# Altium schematic symbol library Hydroscope.SCHLIB: 61 symbols (part 2 of 2)
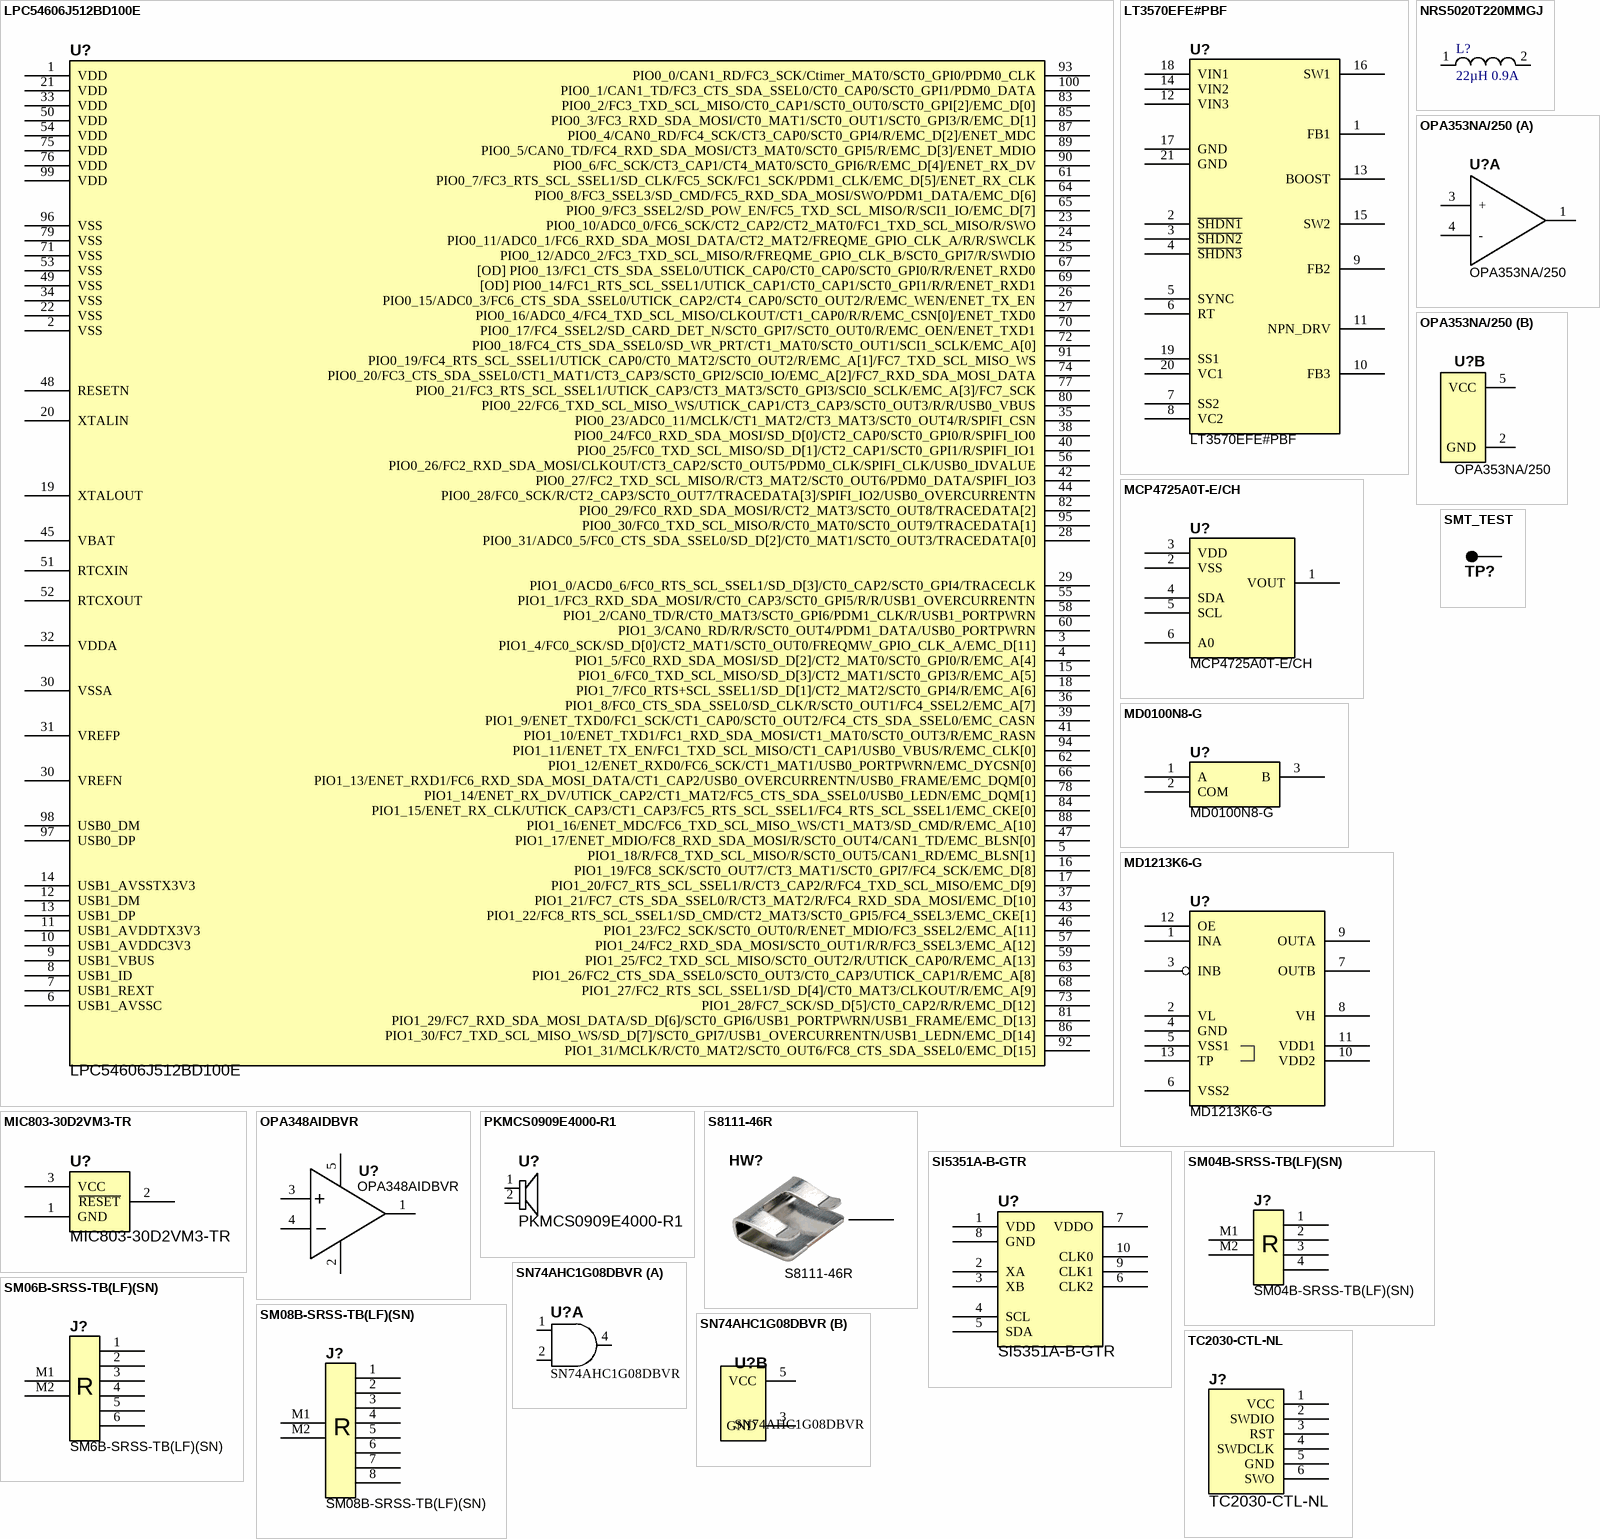
[diagram p3: symbols LPC54606J512BD100E to TC2030‐CTL‐NL]

## LT3570EFE#PBF
designator U?
IC REG BUCK/BST/LINEAR 20TSSOP; Manufacturer: Linear Technology; Number of Outputs: 2; Max Input Voltage: 36V; Min Input Voltage: 2.5V; Switching Frequency: 2.1MHz; Voltage - Output 1: 800mV; Output Current: 1.5A; Frequency: 3MHz; Value: LT3570EFE#PBF; Supplier 1: Arrow; Supplier Part Number 1: LT3570EFE#PBF; Manufacturer Part Number: LT3570EFE#PBF; Stock 1: 2204; Pricing 1: 1=4.36, 99=3.7 (USD); Case/Package: TSSOP; Number of Pins: 20; Min Operating Temperature: -40°C; Max Operating Temperature: 125°C; Package Quantity: 74; Packaging: Rail/Tube; Voltage - Output 2: 800mV; Output Voltage: 800mV; Max Output Current: 1.5A; Max Supply Voltage: 36V; Min Supply Voltage: 2.5V; Min Output Voltage: 800mV; Termination: SMD/SMT; Radiation Hardening: No; Lead Free: Lead Free; REACH SVHC: No SVHC; ComponentLink1URL: https://datasheet.ciiva.com/2076/26936-2076065.pdf; ComponentLink1Description: https://datasheet.ciiva.com/2076/26936-2076065.pdf; ComponentLink2URL: https://datasheet.ciiva.com/6192/1692490-6192694.pdf; ComponentLink2Description: https://datasheet.ciiva.com/6192/1692490-6192694.pdf; ComponentLink3URL: https://datasheet.ciiva.com/7363/1692490-7363821.pdf; ComponentLink3Description: https://datasheet.ciiva.com/7363/1692490-7363821.pdf; ComponentLink4URL: https://datasheet.ciiva.com/7905/1692490-7905870.pdf; ComponentLink4Description: https://datasheet.ciiva.com/7905/1692490-7905870.pdf
footprint TSOP65P640X120_HS-21N (TSOP, 20-Leads, Body 6.50x4.40mm, Pitch 0.65mm, Thermal Pad 3.86x2.74mm, IPC Medium Density)
pins: 1 FB1, 2 ~{SHDN1}, 3 ~{SHDN2}, 4 ~{SHDN3}, 5 SYNC, 6 RT, 7 SS2, 8 VC2, 9 FB2, 10 FB3, 11 NPN_DRV, 12 VIN3, 13 BOOST, 14 VIN2, 15 SW2, 16 SW1, 17 GND, 18 VIN1, 19 SS1, 20 VC1, 21 GND

## MCP4725A0T-E/CH
designator U?
IC DAC 12BIT W/I2C SOT23A-6; Manufacturer: Microchip; Resolution: 12b; Integral Nonlinearity (INL): 14.5LSB; Output Type: Voltage; Number of DAC Channels: 1; Interface: I2C,Serial,2-Wire; Max Supply Voltage: 5.5V; Min Supply Voltage: 2.7V; Settling Time: 6us; Number of Bits: 12; Polarity: Unipolar; Supply Type: Single; Nominal Supply Current: 210uA; Input Offset Voltage (Vos): 1.1mV; Value: MCP4725A0T-E/CH; Supplier 1: Digi-Key; Supplier Part Number 1: MCP4725A0T-E/CHDKR-ND; Manufacturer Part Number: MCP4725A0T-E/CH; Stock 1: 42678; Pricing 1: 1=1.02, 25=0.848, 100=0.7738 (USD); Mount: Surface Mount; Case/Package: SOT-23-6; Number of Pins: 6; Contact Plating: Tin,Matte; Min Operating Temperature: -40°C; Max Operating Temperature: 125°C; Number of Channels: 1; Packaging: Tape and Reel; Package Quantity: 3000; Number of Converters: 1; Number of Outputs: 1; Number of D/A Converters: 1; Termination: SMD/SMT; Length: 3.1mm; Height: 1.3mm; Width: 1.8mm; Radiation Hardening: No; REACH SVHC: No SVHC; Lead Free: Lead Free; ComponentLink1URL: https://datasheet.ciiva.com/7660/1470577-7660741.pdf; ComponentLink1Description: https://datasheet.ciiva.com/7660/1470577-7660741.pdf; ComponentLink2URL: https://datasheet.ciiva.com/16355/filehandler-aspxddocname-en532676-16355109.pdf; ComponentLink2Description: https://datasheet.ciiva.com/16355/filehandler-aspxddocname-en532676-16355109.pdf; ComponentLink3URL: https://datasheet.ciiva.com/8169/22039c-8169286.pdf; ComponentLink3Description: https://datasheet.ciiva.com/8169/22039c-8169286.pdf; ComponentLink4URL: https://datasheet.ciiva.com/12285/22039c-78124-12285942.pdf; ComponentLink4Description: https://datasheet.ciiva.com/12285/22039c-78124-12285942.pdf; ComponentLink5URL: https://datasheet.ciiva.com/16625/22039c-16625638.pdf; ComponentLink5Description: https://datasheet.ciiva.com/16625/22039c-16625638.pdf; ComponentLink6URL: https://datasheet.ciiva.com/26947/getdatasheetpartid-780909-26947786.pdf; ComponentLink6Description: https://datasheet.ciiva.com/26947/getdatasheetpartid-780909-26947786.pdf; ComponentLink7URL: https://datasheet.ciiva.com/1359/22039d-1359787.pdf; ComponentLink7Description: https://datasheet.ciiva.com/1359/22039d-1359787.pdf; ComponentLink8URL: https://datasheet.ciiva.com/1359/22039d-1359788.pdf; ComponentLink8Description: https://datasheet.ciiva.com/1359/22039d-1359788.pdf; ComponentLink9URL: https://datasheet.ciiva.com/1359/22039d-1359789.pdf; ComponentLink9Description: https://datasheet.ciiva.com/1359/22039d-1359789.pdf; ComponentLink10URL: https://datasheet.ciiva.com/14180/mcp4725-eng-tds-14180126.pdf; ComponentLink10Description: https://datasheet.ciiva.com/14180/mcp4725-eng-tds-14180126.pdf
footprint SOT95P245X145-6L (SOT23, 6-Leads, Body 3.1x2.6mm (max), Pitch 0.95mm, IPC High Density)
pins: 1 VOUT, 2 VSS, 3 VDD, 4 SDA, 5 SCL, 6 A0

## MD0100N8-G
designator U?
High Voltage Protection T/R Switch 4-Pin(3+Tab) SOT-89; Manufacturer: Microchip Supertex; On-State Resistance: 15R; Value: MD0100N8-G; Supplier 1: Digi-Key; Supplier Part Number 1: MD0100N8-GCT-ND; Manufacturer Part Number: MD0100N8-G; Stock 1: 609; Pricing 1: 1=1.24, 25=1.0284, 100=0.9328 (USD); Mount: Surface Mount; Case/Package: SOT-89; Number of Pins: 4; Min Operating Temperature: -40°C; Max Operating Temperature: 125°C; Packaging: Tape and Reel; Package Quantity: 2000; Length: 4.6mm; ComponentLink1URL: https://datasheet.ciiva.com/15746/md0100-15746487.pdf; ComponentLink1Description: https://datasheet.ciiva.com/15746/md0100-15746487.pdf; ComponentLink2URL: https://datasheet.ciiva.com/30248/656md0100-30248377.pdf; ComponentLink2Description: https://datasheet.ciiva.com/30248/656md0100-30248377.pdf
footprint SOT89-150P410X160-3N (Footprint not found)
pins: 1 A, 2 COM, 3 B

## MD1213K6-G
designator U?
Gate Drivers HI SPD DUAL MOSFET DRIVER; Manufacturer: Microchip Supertex; Max Supply Voltage: 13V; Max Output Current: 2A; Min Supply Voltage: 4.5V; Rise Time: 6ns; Number of Outputs: 2; Operating Supply Voltage: 12V; Frequency: 100kHz; Nominal Supply Current: 550uA; Propagation Delay: 7ns; Value: MD1213K6-G; Supplier 1: Digi-Key; Supplier Part Number 1: MD1213K6-GCT-ND; Manufacturer Part Number: MD1213K6-G; Stock 1: 2628; Pricing 1: 1=1.61, 25=1.3464, 100=1.219 (USD); Mount: Surface Mount; Case/Package: QFN; Number of Pins: 12; Min Operating Temperature: -20°C; Max Operating Temperature: 85°C; Packaging: Tape and Reel; Package Quantity: 3000; Output Current: 2A; Number of Drivers: 2; Fall Time: 6ns; ComponentLink1URL: https://datasheet.ciiva.com/4898/md1213-30882-4898732.pdf; ComponentLink1Description: https://datasheet.ciiva.com/4898/md1213-30882-4898732.pdf; ComponentLink2URL: https://datasheet.ciiva.com/30175/md1213-30175933.pdf; ComponentLink2Description: https://datasheet.ciiva.com/30175/md1213-30175933.pdf
footprint QFN80P400X400X100_HS-13N (QFN, 12-Leads, Body 4.00x4.00mm, Pitch 0.80mm, Thermal Pad 1.50x1.50mm, IPC Medium Density)
pins: 1 INA, 2 VL, 3 INB, 4 GND, 5 VSS1, 6 VSS2, 7 OUTB, 8 VH, 9 OUTA, 10 VDD2, 11 VDD1, 12 OE, 13 TP

## MIC803-30D2VM3-TR
designator U?
3-Pin Microprocessor Supervisor Circuit w/ Open-Drain Reset Output, 3 SOT-23 - T/R; Manufacturer: Microchip; Number of Voltages Monitored: 1; Reset: Active Low; Reset Timeout: 20ms; Threshold Voltage: 3V; Value: MIC803-30D2VM3-TR; Supplier 1: Digi-Key; Supplier Part Number 1: 576-3808-1-ND; Manufacturer Part Number: MIC803-30D2VM3-TR; Stock 1: 3642; Pricing 1: 1=0.3, 25=0.252, 100=0.231 (USD); Mount: Surface Mount; Case/Package: TO-236-3; Min Operating Temperature: -40°C; Max Operating Temperature: 125°C; Packaging: Cit Tape (CT); Type: Simple Reset/Power-On Reset; Lead Free: Lead Free
footprint SOT-23
pins: 1 GND, 2 ~{RESET}, 3 VCC

## NRS5020T220MMGJ
designator L?, comment 22µH 0.9A
Inductor 22µH 0.9A; Part Number: NRS5020T220MMGJ; Manufacturer: Taiyo Yuden; CategorySort: 300; Inductance (uH): 22; Tolerance: ±20%; DCR Max (Ohms): 312 mOhm Max; SRF typ (MHz): 17MHz; Isat (A): 0.9; IRMS: 1; Shielding: Sheilded; Category: Inductors; Value: 22µH 0.9A; ComponentLink1Description: External Datasheet; ComponentLink1URL: http://ds.yuden.co.jp/TYCOMPAS/ut/detail.do?productNo=NRS5020T220MMGJV&fileName=NRS5020T220MMGJV_SS&mode=specSheetDownload; Sort Value: 22_0.9; Sort Value Package: 22_0.9_NRS5020; Manufacturer Part Number: NRS5020T220MMGJ; Supplier 1: Digikey; Supplier Part Number 1: 587-2411-1-ND; Supplier Unit Price 1: 0.34; Package: NRS5020; Height (mm): 2mm; Rating: -
footprint L_NRS5020
pins: 1, 2

## OPA348AIDBVR
designator U?
IC OPAMP GP 1MHZ RRO SOT23-5; Manufacturer: Texas Instruments; Min Supply Voltage: 2.5V; Max Supply Voltage: 5.5V; Voltage Gain: 108dB; Common Mode Rejection Ratio: 70dB; Number of Channels: 1; Slew Rate: 0.5V/µs; Nominal Supply Current: 65uA; Input Offset Voltage (Vos): 5mV; Input Bias Current: 10pA; Power Supply Rejection Ratio (PSRR): 84.44dB; Operating Supply Current: 45uA; Output Current per Channel: 10mA; Value: OPA348AIDBVR; Supplier 1: Digi-Key; Supplier Part Number 1: 296-26277-1-ND; Manufacturer Part Number: OPA348AIDBVR; Stock 1: 13530; Pricing 1: 1=0.68, 10=0.598, 100=0.4586, 500=0.36256, 1000=0.29005 (USD); Case/Package: SOT-23; Number of Pins: 5; Min Operating Temperature: -40°C; Max Operating Temperature: 125°C; Gain Bandwidth Product: 1MHz; Package Quantity: 3000; Packaging: Tape and Reel; Unity Gain Bandwidth Product: 1MHz; Bandwidth: 1MHz; Number of Circuits: 1; Number of Elements: 1; Number of Amplifiers: 1; Length: 2.9mm; Height: 1.15mm; Width: 1.6mm; Radiation Hardening: No; REACH SVHC: No SVHC; Lead Free: Lead Free; ComponentLink1URL: https://datasheet.ciiva.com/2974/opa4348-2974011.pdf; ComponentLink1Description: https://datasheet.ciiva.com/2974/opa4348-2974011.pdf; ComponentLink2URL: https://datasheet.ciiva.com/2974/opa4348-2974012.pdf; ComponentLink2Description: https://datasheet.ciiva.com/2974/opa4348-2974012.pdf; ComponentLink3URL: https://datasheet.ciiva.com/1811/opa2348-1811421.pdf; ComponentLink3Description: https://datasheet.ciiva.com/1811/opa2348-1811421.pdf; ComponentLink4URL: https://datasheet.ciiva.com/26226/opa4348-26226685.pdf; ComponentLink4Description: https://datasheet.ciiva.com/26226/opa4348-26226685.pdf; ComponentLink5URL: https://datasheet.ciiva.com/1811/opa2348-1811422.pdf; ComponentLink5Description: https://datasheet.ciiva.com/1811/opa2348-1811422.pdf; ComponentLink6URL: https://datasheet.ciiva.com/1811/opa2348-1811423.pdf; ComponentLink6Description: https://datasheet.ciiva.com/1811/opa2348-1811423.pdf; Contact Plating: Gold; Nominal Gain Bandwidth Product: 1MHz; Max I/O Voltage: 5mV
footprint SOT23-5 (SOT23, 5-Leads, Body 3.1x2.6mm (max), Pitch 0.95mm, IPC High Density)
pins: 1 OUT, 2 GND, 3 +, 4 -, 5 VCC

## OPA353NA/250
designator U?
IC OPAMP GP 44MHZ RRO SOT23-5; Manufacturer: Texas Instruments; Amplifier Type: General Purpose; Number of Circuits: 1; Output Type: Rail-to-Rail; Slew Rate: 22 V/µs; Current - Input Bias: 0.5pA; Voltage - Input Offset: 3mV; Current - Supply: 5.2mA; Current - Output / Channel: 40mA; Voltage - Supply, Single/Dual (±): 2.5 V ~ 5.5 V, ±1.25 V ~ 2.75 V; Value: OPA353NA/250; Supplier 1: Digi-Key; Supplier Part Number 1: OPA353NACT-ND; Manufacturer Part Number: OPA353NA/250; RoHS: RoHS Compliant; Category: Integrated Circuits (ICs); Stock 1: 21970; Pricing 1: 1=2.98, 10=2.671, 100=2.1909 (USD); Packaging: Cut Tape (CT); Gain Bandwidth Product: 44MHz; -3db Bandwidth: -; Operating Temperature: -40°C ~ 85°C; Mounting Type: Surface Mount; Package / Case: SC-74A, SOT-753; Supplier Device Package: SOT-23-5; ComponentLink1URL: http://www.ti.com/lit/ds/symlink/opa353.pdf; ComponentLink1Description: http://www.ti.com/lit/ds/symlink/opa353.pdf
footprint SOT23-5 (SOT23, 5-Leads, Body 3.1x2.6mm (max), Pitch 0.95mm, IPC High Density)
part A pins: 1 OUT, 3 +, 4 -
part B pins: 2 GND, 5 VCC

## PKMCS0909E4000-R1
designator U?
Audio Indicators & Alerts Piezo Buzzer 9x9mm 4KHz 1.9mm Thickness; Manufacturer: Murata; Voltage Rating: 1.5V; Voltage Rating (DC): 12.5V; Min Supply Voltage (DC): -12.5V; Value: PKMCS0909E4000-R1; Supplier 1: Digi-Key; Supplier Part Number 1: 490-9647-1-ND; Manufacturer Part Number: PKMCS0909E4000-R1; Stock 1: 28739; Pricing 1: 1=1.96, 10=1.708, 25=1.3284, 50=1.2018, 100=1.0753, 250=1.04364, 500=1.012, 1000=0.91713 (USD); Mount: Surface Mount; Min Operating Temperature: -40°C; Max Operating Temperature: 85°C; Packaging: Tape and Reel; Package Quantity: 2000; Frequency: 4kHz; Termination: Solder; Max Supply Voltage (DC): 12.5V; Self Resonant Frequency: 4kHz; Length: 9mm; Height: 1.9mm; Width: 9mm; Depth: 9mm; Radiation Hardening: No; REACH SVHC: No SVHC; Lead Free: Lead Free; ComponentLink1URL: https://datasheet.ciiva.com/24244/pkmcs0909e4000-r1-304946-24244386.pdf; ComponentLink1Description: https://datasheet.ciiva.com/24244/pkmcs0909e4000-r1-304946-24244386.pdf
footprint PKMCS0909E4000-R1
pins: 1 +, 2 -

## S8111-46R
designator HW?
CBL CLIP 1-1.5MM DIA CBL SMD; Manufacturer: Harwin; Wire/Cable Colour: Grey; Material Thickness: 0.008inch; Value: S8111-46R; Supplier 1: Digi-Key; Supplier Part Number 1: 952-1577-1-ND; Manufacturer Part Number: S8111-46R; Stock 1: 36199; Pricing 1: 1=0.27, 10=0.254, 25=0.218, 50=0.1852, 100=0.1779, 250=0.15972, 500=0.15246 (USD); Mount: Solder; Colour: Natural,Silver; Material: Bronze,Copper,Tin; Package Quantity: 1500; Packaging: Tape and Reel; Length: 5mm; Height: 0.081inch; Width: 5mm; Depth: 5mm; REACH SVHC: No SVHC; ComponentLink1URL: https://datasheet.ciiva.com/73/s8111r-73504.pdf; ComponentLink1Description: https://datasheet.ciiva.com/73/s8111r-73504.pdf; ComponentLink2URL: https://datasheet.ciiva.com/5230/s8111r-65574-5230384.pdf; ComponentLink2Description: https://datasheet.ciiva.com/5230/s8111r-65574-5230384.pdf; ComponentLink3URL: https://datasheet.ciiva.com/73/s8111r-73505.pdf; ComponentLink3Description: https://datasheet.ciiva.com/73/s8111r-73505.pdf; ComponentLink4URL: https://datasheet.ciiva.com/1515/1694708-1515016.pdf; ComponentLink4Description: https://datasheet.ciiva.com/1515/1694708-1515016.pdf; ComponentLink5URL: https://datasheet.ciiva.com/30474/0900766b81270b7b-30474510.pdf; ComponentLink5Description: https://datasheet.ciiva.com/30474/0900766b81270b7b-30474510.pdf; Orientation: Straight; Radiation Hardening: No
footprint S8111-46R
pins: 1

## SI5351A-B-GTR
designator U?
Clock Generators & Support Products Any-Rate, Dual PLL 1 60MHz Clock 8outputs; Manufacturer: Silicon Labs; Number of Outputs: 3; Number of Circuits: 1; Max Frequency: 160MHz; Input: Crystal; PLL: Yes; Operating Supply Current: 22mA; Operating Supply Voltage: 3.3V; Max Duty Cycle: 55%; Value: SI5351A-B-GTR; Supplier 1: Digi-Key; Supplier Part Number 1: 336-3908-1-ND; Manufacturer Part Number: SI5351A-B-GTR; Stock 1: 11416; Pricing 1: 1=0.92, 25=0.8816, 100=0.8475 (USD); Mount: Surface Mount; Case/Package: MSOP; Number of Pins: 10; Min Operating Temperature: -40°C; Max Operating Temperature: 85°C; Packaging: Tape and Reel; Package Quantity: 2500; ComponentLink1URL: http://www.mouser.com/ds/2/368/Si5351-B-346869.pdf; ComponentLink1Description: http://www.mouser.com/ds/2/368/Si5351-B-346869.pdf; ComponentLink2URL: https://www.silabs.com/Support%20Documents/TechnicalDocs/Si5350-51-short.pdf; ComponentLink2Description: https://www.silabs.com/Support%20Documents/TechnicalDocs/Si5350-51-short.pdf; ComponentLink3URL: https://www.silabs.com/Support%20Documents/TechnicalDocs/Si5351-B.pdf; ComponentLink3Description: https://www.silabs.com/Support%20Documents/TechnicalDocs/Si5351-B.pdf
footprint 10 MSOP ((Reference LTC DWG # 05-08-1661 Rev E))
pins: 1 VDD, 2 XA, 3 XB, 4 SCL, 5 SDA, 6 CLK2, 7 VDDO, 8 GND, 9 CLK1, 10 CLK0

## SM04B-SRSS-TB(LF)(SN)
designator J?
Conn Shrouded Header HDR 4 POS 1mm Solder RA SMD T/R; Manufacturer: JST; Number of Positions: 4; Connector Type: Male Pin; Contact Resistance: 40mR; Max Current Rating: 1A; Max Voltage Rating (AC): 50V; Pitch: 0.039inch; Value: SM04B-SRSS-TB(LF)(SN); Supplier 1: Digi-Key; Manufacturer Part Number: SM04B-SRSS-TB(LF)(SN); Stock 1: 43886; Pricing 1: 1=0.61, 10=0.569, 100=0.436, 500=0.37914, 1000=0.31279 (USD); Mount: Surface Mount; Contact Material: Copper Alloy; Contact Plating: Copper,Tin; Colour: Natural; Housing Colour: Beige; Housing Material: Polyamide; Min Operating Temperature: -25°C; Max Operating Temperature: 85°C; Number of Rows: 1; Termination: Solder; Packaging: Tape and Reel; Orientation: Right Angle; Number of Contacts: 4; Max Voltage Rating (DC): 50V; Length: 6mm; Depth: 4.95mm; Lead Free: Lead Free; ComponentLink1URL: https://datasheet.ciiva.com/26894/getdatasheetpartid-499363-26894945.pdf; ComponentLink1Description: https://datasheet.ciiva.com/26894/getdatasheetpartid-499363-26894945.pdf; ComponentLink2URL: https://datasheet.ciiva.com/26894/getdatasheetpartid-640736-26894676.pdf; ComponentLink2Description: https://datasheet.ciiva.com/26894/getdatasheetpartid-640736-26894676.pdf; ComponentLink3URL: https://datasheet.ciiva.com/16487/jstsm04b-srss-tb-lf-sn-16487222.pdf; ComponentLink3Description: https://datasheet.ciiva.com/16487/jstsm04b-srss-tb-lf-sn-16487222.pdf; Supplier Part Number 1: 455-1804-1-ND
footprint SM04B-SRSS-TB(LF)(SN) (CONN HEADR SH 4POS SIDE 1MM TIN)
pins: 1, 2, 3, 4, M1, M2
text: R

## SM06B-SRSS-TB(LF)(SN)
designator J?, comment SM6B-SRSS-TB(LF)(SN)
6 Positions Header, Shrouded Connector 0.039" (1.00mm) Surface Mount, Right Angle Tin; Manufacturer: JST; Manufacturer Part Number: SM06B-SRSS-TB(LF)(SN); Number of Positions: 6; Connector Type: Male Pin; Current Rating: 1A; Voltage Rating: 50V; Contact Resistance: 40mR; Insulation Resistance: 100MR; Gender: Male; Pitch: 1mm; Value: SM6B-SRSS-TB(LF)(SN); Supplier 1: Digi-Key; Supplier Part Number 1: 455-1806-1-ND; Stock 1: 40560; Pricing 1: 1=0.83, 10=0.782, 100=0.5996, 500=0.5214, 1000=0.4301 (USD); Mount: Surface Mount; Contact Material: Copper,Copper Alloy; Contact Plating: Copper,Tin,Lead; Colour: Natural; Housing Colour: Beige; Housing Material: Polyamide; Material: Polyamide; Min Operating Temperature: -25°C; Max Operating Temperature: 85°C; Number of Rows: 1; Packaging: Tape and Reel; Termination: Solder; Number of Contacts: 6; Orientation: Right Angle; Voltage Rating (AC): 50V; Max Current Rating: 1A; Max Voltage Rating (AC): 50V; Max Voltage Rating (DC): 50V; Length: 8mm; Lead Pitch: 1mm; Depth: 4.95mm; Lead Free: Lead Free; REACH SVHC: No SVHC; Flammability Rating: UL94 V-0; ComponentLink1URL: https://datasheet.ciiva.com/11752/0900766b8082f544-11752176.pdf; ComponentLink1Description: https://datasheet.ciiva.com/11752/0900766b8082f544-11752176.pdf; ComponentLink2URL: https://datasheet.ciiva.com/16217/sm06b-srss-tblfsn-16217552.pdf; ComponentLink2Description: https://datasheet.ciiva.com/16217/sm06b-srss-tblfsn-16217552.pdf; ComponentLink3URL: https://datasheet.ciiva.com/26894/getdatasheetpartid-490708-26894951.pdf; ComponentLink3Description: https://datasheet.ciiva.com/26894/getdatasheetpartid-490708-26894951.pdf; ComponentLink4URL: https://datasheet.ciiva.com/26894/getdatasheetpartid-639890-26894680.pdf; ComponentLink4Description: https://datasheet.ciiva.com/26894/getdatasheetpartid-639890-26894680.pdf; ComponentLink5URL: https://datasheet.ciiva.com/8052/91630-8052281.pdf; ComponentLink5Description: https://datasheet.ciiva.com/8052/91630-8052281.pdf; ComponentLink6URL: https://datasheet.ciiva.com/712/esr-712571.pdf; ComponentLink6Description: https://datasheet.ciiva.com/712/esr-712571.pdf; ComponentLink7URL: https://datasheet.ciiva.com/712/esr-712572.pdf; ComponentLink7Description: https://datasheet.ciiva.com/712/esr-712572.pdf; ComponentLink8URL: https://datasheet.ciiva.com/730/esr-730671.pdf; ComponentLink8Description: https://datasheet.ciiva.com/730/esr-730671.pdf
footprint SM06B-SRSS-TB(LF)(SN) (CONN HEADR SH 6POS SIDE 1MM TIN)
pins: 1, 2, 3, 4, 5, 6, M1, M2
text: R

## SM08B-SRSS-TB(LF)(SN)
designator J?
8 Positions Header, Shrouded Connector 0.039" (1.00mm) Surface Mount, Right Angle Tin; Manufacturer: JST; Number of Positions: 8; Connector Type: Male Pin; Contact Resistance: 20mR; Current Rating: 1A; Voltage Rating (AC): 50V; Insulation Resistance: 100MR; Gender: Male; Pitch: 0.039inch; Value: SM08B-SRSS-TB(LF)(SN); Supplier 1: Digi-Key; Manufacturer Part Number: SM08B-SRSS-TB(LF)(SN); Stock 1: 51779; Pricing 1: 1=0.9, 10=0.793, 100=0.6838, 500=0.55948, 1000=0.49731 (USD); Mount: Surface Mount; Colour: Natural; Contact Plating: Tin,Lead; Contact Material: Copper,Copper Alloy; Housing Colour: Natural; Housing Material: Nylon; Material: Polyamide; Min Operating Temperature: -25°C; Max Operating Temperature: 85°C; Packaging: Tape and Reel; Number of Rows: 1; Termination: Solder; Number of Contacts: 8; Orientation: Right Angle; Voltage Rating: 50V; Lead Pitch: 1mm; Lead Free: Lead Free; REACH SVHC: No SVHC; Flammability Rating: UL94 V-0; ComponentLink1URL: https://datasheet.ciiva.com/712/esr-712599.pdf; ComponentLink1Description: https://datasheet.ciiva.com/712/esr-712599.pdf; ComponentLink2URL: https://datasheet.ciiva.com/712/esr-712600.pdf; ComponentLink2Description: https://datasheet.ciiva.com/712/esr-712600.pdf; ComponentLink3URL: https://datasheet.ciiva.com/8052/91630-8052285.pdf; ComponentLink3Description: https://datasheet.ciiva.com/8052/91630-8052285.pdf; ComponentLink4URL: https://datasheet.ciiva.com/729/esr-729838.pdf; ComponentLink4Description: https://datasheet.ciiva.com/729/esr-729838.pdf; ComponentLink5URL: https://datasheet.ciiva.com/11752/0900766b8082f54b-11752174.pdf; ComponentLink5Description: https://datasheet.ciiva.com/11752/0900766b8082f54b-11752174.pdf; ComponentLink6URL: https://datasheet.ciiva.com/16487/esr-16487087.pdf; ComponentLink6Description: https://datasheet.ciiva.com/16487/esr-16487087.pdf; Supplier Part Number 1: 455-1808-1-ND
footprint SM08B-SRSS-TB(LF)(SN) (CONN HEADR SH 8POS SIDE 1MM TIN)
pins: 1, 2, 3, 4, 5, 6, 7, 8, M1, M2
text: R

## SMT_TEST
designator TP?  (value not drawn)  (no BOM)
Value: SMT_TEST
footprint SMT_TP - 35 (.035" SMT Test pad)
footprint SMT_TP - 25 (.025" SMT Test pad)
footprint SMT_TP - 50 (.050" SMT Test pad)
footprint SMT_TP - 75 (.075" SMT Test pad)
footprint SMT_TP - 100 (.100" SMT Test pad)
pins: 1

## SN74AHC1G08DBVR
designator U?
IC SGL 2IN POS-AND GATE SOT23-5; Manufacturer: Texas Instruments; Number of Inputs: 2; Number of Circuits: 1; Current - Output High, Low: 8mA, 8mA; Voltage - Supply: 2 V ~ 5.5 V; Supplier 1: Digi-Key; Supplier Part Number 1: 296-1091-1-ND; Manufacturer Part Number: SN74AHC1G08DBVR; RoHS: RoHS Compliant; Category: Integrated Circuits (ICs); Stock 1: 63967; Pricing 1: 1=0.53, 25=0.31, 100=0.25, 250=0.18, 500=0.145, 1000=0.1125 (USD); Logic Type: AND Gate; Operating Temperature: -40°C ~ 85°C; Mounting Type: Surface Mount; Package / Case: SOT-23-5, SC-74A, SOT-25; Packaging: Cut Tape (CT); Supplier Device Package: *; ComponentLink1URL: http://focus.ti.com/lit/ds/symlink/sn74ahc1g08.pdf; ComponentLink1Description: http://focus.ti.com/lit/ds/symlink/sn74ahc1g08.pdf; Value: SN74AHC1G08DBVR
footprint SOT95P245X145-5L (SOT23, 5-Leads, Body 3.1x2.6mm (max), Pitch 0.95mm, IPC High Density)
part A pins: 1 A, 2 B, 4 OUT
part B pins: 3 GND, 5 VCC

## TC2030‐CTL‐NL
designator J?  (no BOM)
Tag Connect Pads - No latching Clips - ARM; Value: TC2030‐CTL‐NL
footprint TC2030 NO LATCH (TC2030  NO LATCH)
footprint TC2030 DOUBLE SIDED NO LATCH (TC2030 Double Sided No Latch)
footprint TC2030 DOUBLE SIDED (TC2030 Double Sided)
footprint TC2030 (TC2030-MCP)
pins: 1 VCC, 2 SWDIO, 3 RST, 4 SWDCLK, 5 GND, 6 SWO

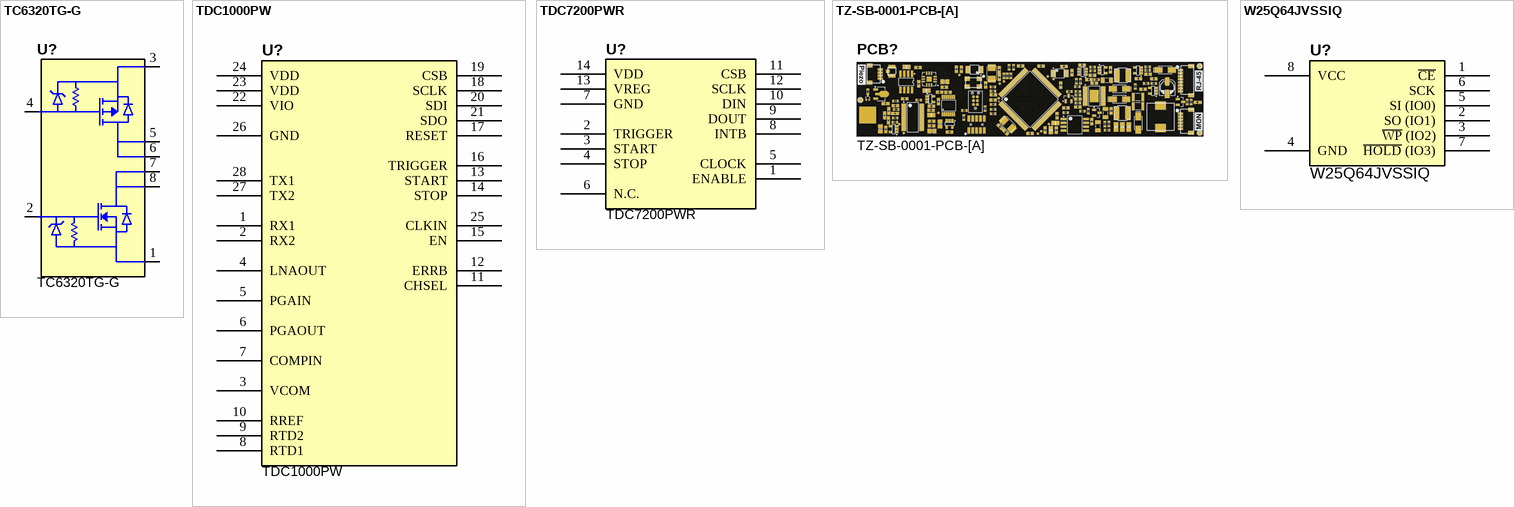
[diagram p2: symbols TC6320TG-G to W25Q64JVSSIQ]

## TC6320TG-G
designator U?
Trans MOSFET N/P-CH 200V 8-Pin SOIC N T/R; Manufacturer: Microchip Supertex; Rise Time: 15ns; Drain to Source Resistance: 8R; Turn-Off Delay Time: 20ns; Turn-On Delay Time: 10ns; Continuous Drain Current (ID): -2A; Number of Elements: 2; On-State Resistance: 15R; Value: TC6320TG-G; Supplier 1: Digi-Key; Supplier Part Number 1: TC6320TG-GCT-ND; Manufacturer Part Number: TC6320TG-G; Stock 1: 1592; Pricing 1: 1=1.42, 25=1.1768, 100=1.114 (USD); Mount: Surface Mount; Case/Package: SOIC; Number of Pins: 8; Min Operating Temperature: -55°C; Max Operating Temperature: 150°C; Package Quantity: 2000; Packaging: Tape and Reel; Fall Time: 15ns; Drain to Source Breakdown Voltage: 200V; Radiation Hardening: No; ComponentLink1URL: https://datasheet.ciiva.com/30195/tc6320-30195222.pdf; ComponentLink1Description: https://datasheet.ciiva.com/30195/tc6320-30195222.pdf; Supplier 2: Digi-Key; Supplier Part Number 2: MD0100N8-GCT-ND; Stock 2: 609; Pricing 2: 1=1.24, 25=1.0284, 100=0.9328 (USD); Length: 4.6mm; ComponentLink2URL: https://datasheet.ciiva.com/15746/md0100-15746487.pdf; ComponentLink2Description: https://datasheet.ciiva.com/15746/md0100-15746487.pdf; ComponentLink3URL: https://datasheet.ciiva.com/30248/656md0100-30248377.pdf; ComponentLink3Description: https://datasheet.ciiva.com/30248/656md0100-30248377.pdf
footprint SOIC 8
pins: 1 SN, 2 GN, 3 SP, 4 GP, 5 DN, 6 DN, 7 DP, 8 DP

## TDC1000PW
designator U?
IC AFE ULTRA SENSING 28TSSOP; Manufacturer: Texas Instruments; Input Type: Ultrasound; Output Type: Digital; Interface: SPI; Supplier 1: Digi-Key; Manufacturer Part Number: TDC1000PW; RoHS: RoHS Compliant; Category: Integrated Circuits (ICs); Stock 1: 125; Pricing 1: 1=6.61, 10=5.152, 25=4.1796, 100=3.5964, 250=3.3048, 500=3.0132, 1000=2.8188 (USD); Packaging: Tray; Part Status: Active; Type: Front End; Operating Temperature: -40°C ~ 125°C; Mounting Type: Surface Mount; Package / Case: 28-TSSOP (0.173", 4.40mm Width); Supplier Device Package: 28-TSSOP; ComponentLink1URL: http://www.ti.com/lit/ds/symlink/tdc1000.pdf; ComponentLink1Description: http://www.ti.com/lit/ds/symlink/tdc1000.pdf; Supplier Part Number 1: 296-39657-ND; Value: TDC1000PW
footprint TSOP65P640X120-28N (Footprint not found)
pins: 1 RX1, 2 RX2, 3 VCOM, 4 LNAOUT, 5 PGAIN, 6 PGAOUT, 7 COMPIN, 8 RTD1, 9 RTD2, 10 RREF, 11 CHSEL, 12 ERRB, 13 START, 14 STOP, 15 EN, 16 TRIGGER, 17 RESET, 18 SCLK, 19 CSB, 20 SDI, 21 SDO, 22 VIO, 23 VDD, 24 VDD, 25 CLKIN, 26 GND, 27 TX2, 28 TX1

## TDC7200PWR
designator U?
IC DIG CONV 14TSSOP; Manufacturer: Texas Instruments; Input Type: Ultrasound; Output Type: Digital; Interface: SPI; Value: TDC7200PWR; Supplier 1: Digi-Key; Supplier Part Number 1: 296-44361-6-ND; Manufacturer Part Number: TDC7200PWR; RoHS: RoHS Compliant; Category: Integrated Circuits (ICs); Stock 1: 2396; Pricing 1: 1=2.77, 10=2.138, 25=1.782, 100=1.5048, 250=1.4256, 500=1.2672, 1000=1.188 (USD); Packaging: Digi-Reel®; Part Status: Active; Type: Time to Flight to Digital Converter; Operating Temperature: -40°C ~ 85°C; Mounting Type: Surface Mount; Package / Case: 14-TSSOP (0.173", 4.40mm Width); Supplier Device Package: 14-TSSOP; ComponentLink1URL: http://www.ti.com/lit/ds/symlink/tdc7200.pdf; ComponentLink1Description: http://www.ti.com/lit/ds/symlink/tdc7200.pdf
footprint TSSOP14
pins: 1 ENABLE, 2 TRIGGER, 3 START, 4 STOP, 5 CLOCK, 6 N.C., 7 GND, 8 INTB, 9 DOUT, 10 DIN, 11 CSB, 12 SCLK, 13 VREG, 14 VDD

## TZ-SB-0001-PCB-[A]
designator PCB?  (mechanical)
Raw printed circuit board,  Revision A; Manufacturer: TZero; Value: TZ-SB-0001-PCB-[A]; Manufacturer Part Number: TZ-SB-0001-PCB-[A]

## W25Q64JVSSIQ
designator U?
NOR Flash Serial-SPI 3V 64MBit 64M x 1bit 6ns 8-Pin SOIC; Manufacturer: Winbond; Memory Type: NOR,FLASH; Frequency: 104MHz; Interface: SPI,Serial; Max Supply Voltage: 3.6V; Min Supply Voltage: 2.7V; Page Size: 256B; Density: 64MB; Address Bus Width: 24b; Value: W25Q64JVSSIQ; Supplier 1: Digi-Key; Supplier Part Number 1: W25Q64JVSSIQ-ND; Manufacturer Part Number: W25Q64JVSSIQ; Stock 1: 41923; Pricing 1: 1=1.36 (USD); Mount: Surface Mount; Case/Package: SOIC; Min Operating Temperature: -40°C; Max Operating Temperature: 85°C; Packaging: Tray; Operating Supply Voltage: 3V; Access Time: 6ns; ComponentLink1URL: http://www.winbond.com/resource-files/w25q64jv%20spi%20revg%2012142016.pdf; ComponentLink1Description: http://www.winbond.com/resource-files/w25q64jv%20spi%20revg%2012142016.pdf; ComponentLink2URL: https://www.winbond.com/resource-files/w25q64jv%20spi%20%20%20revc%2006032016%20kms.pdf; ComponentLink2Description: https://www.winbond.com/resource-files/w25q64jv%20spi%20%20%20revc%2006032016%20kms.pdf
footprint SOIC127P830X200-8L (SOIC, 8-Leads, Body 6.1x6.2mm (max), Pitch 1.27mm, IPC High Density)
pins: 1 ~{CE}, 2 SO (IO1), 3 ~{WP} (IO2), 4 GND, 5 SI (IO0), 6 SCK, 7 ~{HOLD} (IO3), 8 VCC